# EAGLE library part PINHD-1X17 (library dpx-pinhead+)
PIN HEADER
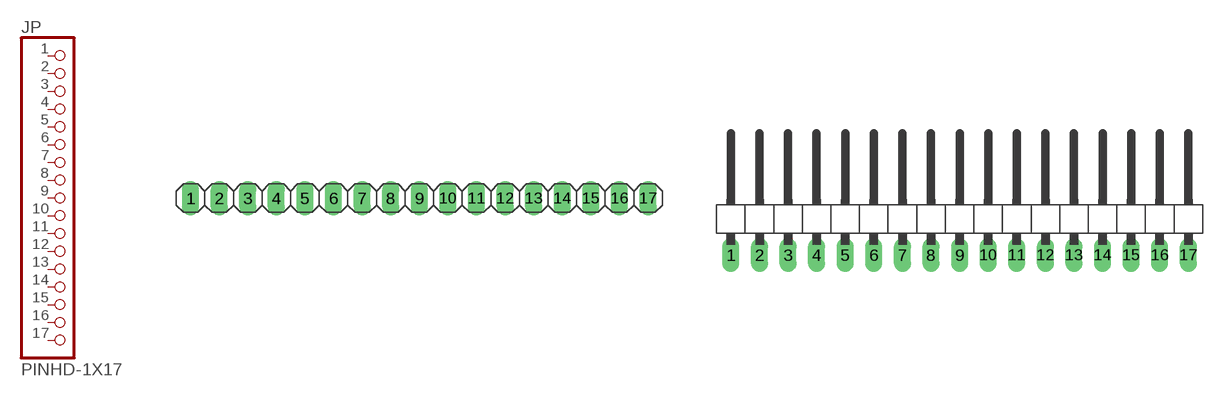
[diagram p25: symbol with the pads of 1X17; footprints 1X17, 1X17/90]

Designator prefix JP

## PINHD-1X17  [1X17]
1  1  pas
2  2  pas
3  3  pas
4  4  pas
5  5  pas
6  6  pas
7  7  pas
8  8  pas
9  9  pas
10  10  pas
11  11  pas
12  12  pas
13  13  pas
14  14  pas
15  15  pas
16  16  pas
17  17  pas

## PINHD-1X17/90  [1X17/90]
Pads as for 1X17

## PINHD-1X171X17_SMT  [1X17_SMT]
Pads as for 1X17

## Footprint 1X17 (pad centres in mm)
PIN HEADER
drill 1.016 long: 1 -20.32,0; 2 -17.78,0; 3 -15.24,0; 4 -12.7,0; 5 -10.16,0; 6 -7.62,0; 7 -5.08,0; 8 -2.54,0; 9 0,0; 10 2.54,0; 11 5.08,0; 12 7.62,0; 13 10.16,0; 14 12.7,0; 15 15.24,0; 16 17.78,0; 17 20.32,0

## Footprint 1X17/90 (pad centres in mm)
PIN HEADER
drill 1.016 long: 1 -20.32,-3.81; 2 -17.78,-3.81; 3 -15.24,-3.81; 4 -12.7,-3.81; 5 -10.16,-3.81; 6 -7.62,-3.81; 7 -5.08,-3.81; 8 -2.54,-3.81; 9 0,-3.81; 10 2.54,-3.81; 11 5.08,-3.81; 12 7.62,-3.81; 13 10.16,-3.81; 14 12.7,-3.81; 15 15.24,-3.81; 16 17.78,-3.81; 17 20.32,-3.81

## Footprint 1X17_SMT (pad centres in mm)
smd 1 x 2.5: 1 -20.32,1.52; 2 -17.78,-1.52; 3 -15.24,1.52; 4 -12.7,-1.52; 5 -10.16,1.52; 6 -7.62,-1.52; 7 -5.08,1.52; 8 -2.54,-1.52; 9 0,1.52; 10 2.54,-1.52; 11 5.08,1.52; 12 7.62,-1.52; 13 10.16,1.52; 14 12.7,-1.52; 15 15.24,1.52; 16 17.78,-1.52; 17 20.32,1.52